# Altium schematic symbol library Standard.SchLib: 26 symbols
Pins are listed as number, name and electrical type; pins without a type are passive.

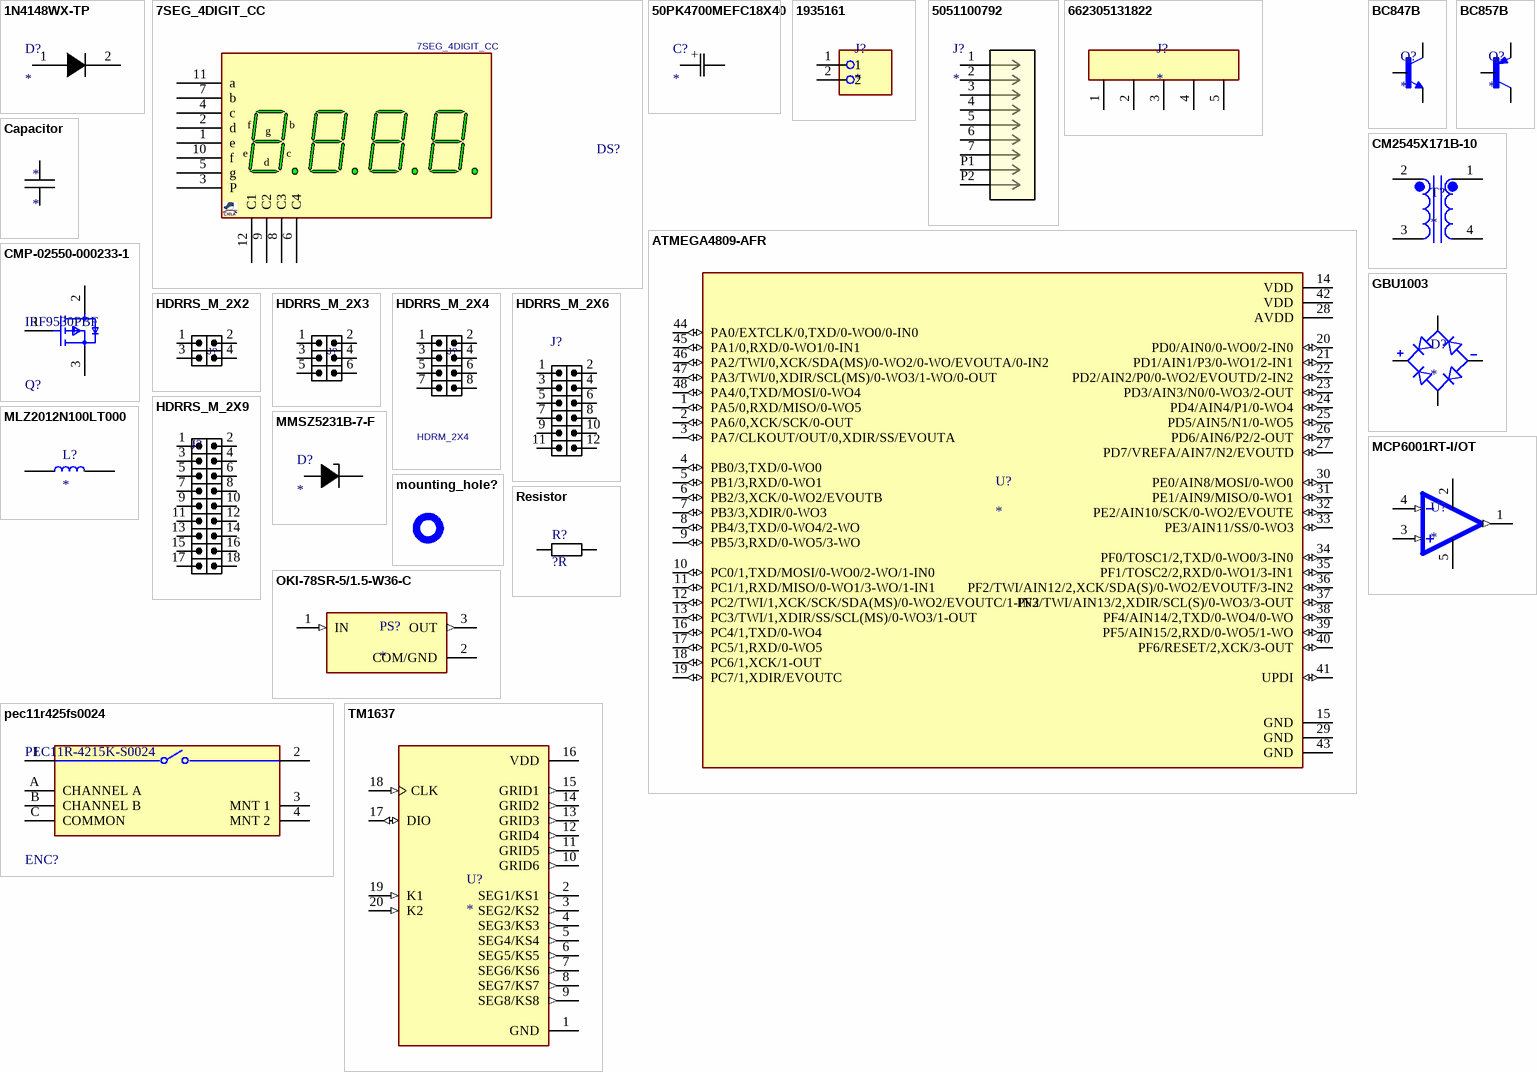
[diagram p0: symbols 1N4148WX-TP to TM1637]

## 1N4148WX-TP
designator D?
MF: {'manufacturer': u'Micro Commercial'}; MP: 1N4148WX-TP; Package: None; Price: None; Value: *; Availability: Unavailable
footprint SOD2512X115N
pins: 1 ANODE, 2 CATHODE

## 7SEG_4DIGIT_CC
designator DS?
7SEGMENT, 4DIGIT, common cathode 5641; MANF_P#: DPY-4CK; VALUE: 7SEG_4DIGIT_CC
footprint 7SEGX4_12 (7SEG 4DIGIT 12pin Pitch: 2.54mm    5641 0.56", 19X50.3mm)
pins: 1 e, 2 d, 3 P, 4 c, 5 g, 6 C4, 7 b, 8 C3, 9 C2, 10 f, 11 a, 12 C1

## 50PK4700MEFC18X40
designator C?
No Description Available; Mfr_Name: Rubycon
footprint CAP_PKPZ_18X40_RUB
pins: 1, 2
text: +

## 1935161
designator J?
MF: {'manufacturer': u'Phoenix Contact'}; MP: 1935161; Package: None; Price: None; Value: *; Availability: Unavailable
footprint PHOENIX_1935161
pins: 1, 2

## 5051100792
designator J?
No Description Available; Mfr_Name: Molex Connector Corporation; RefDes: RefDes; Type: Type
footprint CON_5051100792_MOL
pins: 1, 2, 3, 4, 5, 6, 7, P1, P2

## 662305131822
designator J?
<br><b> <br><b>3.00 MM SMT SINGLE ROW MALE VERTICAL HEADER WITH SMT SOLDER TABS<br><br></b></b>=>ConMPC3 662305131822 <br> <br> <br><b> Characteristics  <br><br></b></b>INSULATOR: LCP  <br>FLAMABILITY RATING: UL94-V0  <br>COLOR: BLACK  <br>CONTACT MATERIAL: COPPER ALLOY  <br>CONTACT TYPE: STAMPED  <br>CONTACT PLATING: TIN  <br>QUALITY CLASS:25 MATING CYCLES  <br>OPERATING TEMPERATURE:-40Â°C UP TO +105Â°C  <br>COMPLIANCE: LEAD FREE AND ROHS <br> <br> <br> <br><b> ELECTRICAL  <br><br></b></b>CURRENT RATING: 5A  <br>WORKING VOLTAGE: 250 VAC  <br>INSULATOR RESISTANCE: >1000 MOHM  <br>DIELECTRIC WITHSTANDING VOLTAGE: 1500 VAC/MN  <br>CONTACT RESISTANCE: 10 mOHM MAX  <br> <br> <br><a href="http://katalog.we-online.de/media/images/v2/Family_WR-MPC3-6623xx131822_SW.jpg" title="Enlarge picture"> <img src="http://katalog.we-online.de/media/images/v2/Family_WR-MPC3-6623xx131822_SW.jpg"  width="320"></a><p> Details see: <a href="http://katalog.we-online.de/en/em/MPC3_3_00_SMT_MALE_SINGLE_ROW_VERTICAL_W_SMT_SOLDER_TAB_6623XX131822">http://katalog.we-online.de/en/em/MPC3_3_00_SMT_MALE_SINGLE_ROW_VERTICAL_W_SMT_SOLDER_TAB_6623XX131822</a><p> <br></b>2015 (C) Wurth Elektronik; Package: None; Price: None; Value: *; MP: 662305131822; Availability: Unavailable
footprint 662305131822
pins: 1 5, 2 4, 3, 4 2, 5 1

## ATMEGA4809-AFR
designator U?
20MHz 48KB TQFP48 Ind 125C Green T&R; MF: {'manufacturer': u'Microchip'}; MP: ATMEGA4809-AFR; Package: None; Price: None; Value: *; Availability: Unavailable
footprint QFP50P900X900X120-48N
pins: 1 PA5/0,RXD/MISO/0-WO5 (io), 2 PA6/0,XCK/SCK/0-OUT (io), 3 PA7/CLKOUT/OUT/0,XDIR/SS/EVOUTA (io), 4 PB0/3,TXD/0-WO0 (io), 5 PB1/3,RXD/0-WO1 (io), 6 PB2/3,XCK/0-WO2/EVOUTB (io), 7 PB3/3,XDIR/0-WO3 (io), 8 PB4/3,TXD/0-WO4/2-WO (io), 9 PB5/3,RXD/0-WO5/3-WO (io), 10 PC0/1,TXD/MOSI/0-WO0/2-WO/1-IN0 (io), 11 PC1/1,RXD/MISO/0-WO1/3-WO/1-IN1 (io), 12 PC2/TWI/1,XCK/SCK/SDA(MS)/0-WO2/EVOUTC/1-IN2 (io), 13 PC3/TWI/1,XDIR/SS/SCL(MS)/0-WO3/1-OUT (io), 14 VDD (power), 15 GND (power), 16 PC4/1,TXD/0-WO4 (io), 17 PC5/1,RXD/0-WO5 (io), 18 PC6/1,XCK/1-OUT (io), 19 PC7/1,XDIR/EVOUTC (io), 20 PD0/AIN0/0-WO0/2-IN0 (io), 21 PD1/AIN1/P3/0-WO1/2-IN1 (io), 22 PD2/AIN2/P0/0-WO2/EVOUTD/2-IN2 (io), 23 PD3/AIN3/N0/0-WO3/2-OUT (io), 24 PD4/AIN4/P1/0-WO4 (io), 25 PD5/AIN5/N1/0-WO5 (io), 26 PD6/AIN6/P2/2-OUT (io), 27 PD7/VREFA/AIN7/N2/EVOUTD (io), 28 AVDD (power), 29 GND (power), 30 PE0/AIN8/MOSI/0-WO0 (io), 31 PE1/AIN9/MISO/0-WO1 (io), 32 PE2/AIN10/SCK/0-WO2/EVOUTE (io), 33 PE3/AIN11/SS/0-WO3 (io), 34 PF0/TOSC1/2,TXD/0-WO0/3-IN0 (io), 35 PF1/TOSC2/2,RXD/0-WO1/3-IN1 (io), 36 PF2/TWI/AIN12/2,XCK/SDA(S)/0-WO2/EVOUTF/3-IN2 (io), 37 PF3/TWI/AIN13/2,XDIR/SCL(S)/0-WO3/3-OUT (io), 38 PF4/AIN14/2,TXD/0-WO4/0-WO (io), 39 PF5/AIN15/2,RXD/0-WO5/1-WO (io), 40 PF6/RESET/2,XCK/3-OUT (io), 41 UPDI (io), 42 VDD (power), 43 GND (power), 44 PA0/EXTCLK/0,TXD/0-WO0/0-IN0 (io), 45 PA1/0,RXD/0-WO1/0-IN1 (io), 46 PA2/TWI/0,XCK/SDA(MS)/0-WO2/0-WO/EVOUTA/0-IN2 (io), 47 PA3/TWI/0,XDIR/SCL(MS)/0-WO3/1-WO/0-OUT (io), 48 PA4/0,TXD/MOSI/0-WO4 (io)

## BC847B
designator Q?
<a href="https://pricing.snapeda.com/parts/BC847B/Diotec%20Semiconductor/view-part?ref=eda">Check availability</a>; MF: {'manufacturer': u'STMicroelectronics'}; MP: BC847B; Package: None; Price: None; Value: *; Availability: Unavailable
footprint TRANS_BC847B
pins: 1 B, 2 E, 3 C

## BC857B
designator Q?
MF: {'manufacturer': u'Diotec'}; MP: BC857B; Package: None; Price: None; Value: *; Availability: Unavailable
footprint SOT95P240X120-3N
pins: 1 B, 2 E, 3 C

## Capacitor
designator *
footprint C 0603 / 1608 (Capacitor 0603 / 1608 (1.6 x 0.8 mm))
pins: 1, 2 1

## CM2545X171B-10
designator T?
MF: {'manufacturer': u'Laird'}; MP: CM2545X171B-10; Package: None; Price: None; Value: *; Availability: Unavailable
footprint XFMR_CM2545X171B-10
pins: 1, 2, 3, 4

## CMP-02550-000233-1
designator Q?, comment IRF9530PBF
MOSFET P-CH 100V 12A TO-220AB; Drain to Source Breakdown Voltage: -100V; On-State Resistance: 300mR; Gate to Source Voltage (Vgs): 20V; Recovery Time: 240ns; Power Dissipation: 88W; Threshold Voltage: -4V; Number of Channels: 1; Current Rating: -12A; Fall Time: 39ns; Polarity: P-CHANNEL; Turn-On Delay Time: 12ns; Element Configuration: Single; Input Capacitance: 860pF; Rise Time: 52ns; Turn-Off Delay Time: 31ns; Polarization: P; Lead Free: Lead Free; RoHS Compliant: Yes; Radiation Hardening: No; Width: 4.7mm; Drain to Source Resistance: 300mR; Package Quantity: 50; Height: 9.01mm; Length: 10.41mm; Rds On Max: 300mR; Min Operating Temperature: -55°C; Case/Package: TO-220AB; Continuous Drain Current (ID): 12A; Number of Pins: 3; Weight: 0.211644oz; Max Operating Temperature: 175°C; Series: -; Max Power Dissipation: 88W; Voltage Rating (DC): -100V; Mount: Through Hole; Packaging: Rail/Tube; Number of Elements: 1; Drain-source On Resistance-Max: 300mR; Drain to Source Voltage (Vdss): 100V
footprint FP-X15-0364-MFG
pins: 1 G, 2 D, 3 S

## GBU1003
designator D?
MF: {'manufacturer': u'Taiwan Semiconductor'}; MP: GBU1003; Package: None; Price: None; Value: *; Availability: Unavailable
footprint SIP343W114P508L2205H2134Q4 (Footprint not found)
pins: AC1, AC2, NEG, POS

## HDRRS_M_2X2
designator J?, comment HDRM_2X2  (value not drawn)
CONN, HEADER, Male, pitch: 2.54mm, 4POS; MANF_P#: MANF_PART#; MANF: MANF; VALUE: HDRM_2X2
footprint HDR2_M_2X2 (Connector; Header; 2mm Pitch)
pins: 1, 2, 3, 4

## HDRRS_M_2X3
designator J?, comment HDRM_2X3  (value not drawn)
CONN, HEADER, Male, pitch: 2.54mm, 6POS; MANF_P#: MANF_PART#; MANF: MANF; VALUE: HDRM_2X3
footprint HDR2_M_2X3 (Connector; Header; 2mm Pitch)
pins: 1, 2, 3, 4, 5, 6

## HDRRS_M_2X4
designator J?, comment HDRM_2X4
CONN, HEADER, Male, pitch: 2.54mm, 8POS; MANF_P#: MANF_PART#; MANF: MANF; VALUE: HDRM_2X4
footprint HDR2_M_2X4 (Connector; Header; 2mm Pitch)
pins: 1, 2, 3, 4, 5, 6, 7, 8

## HDRRS_M_2X6
designator J?, comment HDRM_2X6  (value not drawn)
CONN, HEADER, Male, pitch: 2.54mm, 12POS; VALUE: HDRM_2X6
footprint HDR2_M_2X6 (Connector; Header; 2mm Pitch)
pins: 1, 2, 3, 4, 5, 6, 7, 8, 9, 10, 11, 12

## HDRRS_M_2X9
designator J?, comment HDRM_2X9  (value not drawn)
CONN, HEADER, Male, pitch: 2.54mm, 18POS; VALUE: HDRM_2X9
footprint HDR2_M_2X9 (Connector; Header; 2mm Pitch)
pins: 1, 2, 3, 4, 5, 6, 7, 8, 9, 10, 11, 12, 13, 14, 15, 16, 17, 18

## MCP6001RT-I/OT
designator U?
General Purpose Amplifier 1 Circuit Rail-to-Rail SOT-23-5; MF: {'manufacturer': u'Microchip Technology'}; MP: MCP6001RT-I/OT; Package: None; Price: None; Value: *; Availability: Unavailable
footprint SOT95P280X145-5N
pins: 1 VOUT (out), 2 VDD (power), 3 VIN+ (in), 4 VIN- (in), 5 VSS (power)

## MLZ2012N100LT000
designator L?
Inductor Power Shielded Multi-Layer 10uH 20% 2MHz Ferrite 500mA 390mOhm DCR 0805 T/R; MF: {'manufacturer': u'TDK'}; MP: MLZ2012N100LT000; Package: None; Price: None; Value: *; Availability: Unavailable
footprint INDC2012X145N
pins: 1, 2

## MMSZ5231B-7-F
designator D?
MF: {'manufacturer': u'Diodes Inc.'}; MP: MMSZ5231B-7-F; Package: None; Price: None; Value: *; Availability: Unavailable
footprint SOD3715X135N
pins: A, K

## mounting_hole?
designator U?  (value not drawn)
MF: Titan Micro Electronics; MP: TM1637; Package: Package; Availability: Not in stock; SnapEDA_Link: https://www.snapeda.com/parts/TM1637/Titan+Micro+Electronics/view-part/?ref=snap; Check_prices: https://www.snapeda.com/parts/TM1637/Titan+Micro+Electronics/view-part/?ref=eda; Value: *; Price: None

## OKI-78SR-5/1.5-W36-C
designator PS?
OKI Series 8 W Single Output 5 V Non Isolated Through Hole DC/DC Converter; MF: {'manufacturer': u'Murata Power Solutions'}; MP: OKI-78SR-5/1.5-W36-C; Package: None; Price: None; Value: *; Availability: Unavailable
footprint CONV_OKI-78SR-5/1.5-W36-C
pins: 1 IN (in), 2 COM/GND (power), 3 OUT (out)

## pec11r425fs0024
designator ENC?, comment PEC11R-4215K-S0024
ROTARY ENCODER MECHANICAL 24PPR; Built in Switch: Yes; Output Type: Quadrature; Pulses per Revolution: 24; Number of Channels: 2; Max Supply Voltage (DC): 5V; Hole Diameter: 1.8mm; Packaging: Bulk; Series: PEC11R; REACH SVHC: No SVHC; Mount: Through Hole; RoHS Compliant: Yes; Length: 21.5mm; Termination: PC Pin; Width: 12.5mm; Min Operating Temperature: -30°C; Package Quantity: 150; Orientation: Vertical; Encoder Type: Mechanical; Height: 13.4mm; Detent: Yes; Max Operating Temperature: 70°C
footprint FP-PEC11R-4215K-S0024-MFG
pins: 1, 2, 3 MNT 1, 4 MNT 2, A CHANNEL A, B CHANNEL B, C COMMON

## Resistor
designator R?, comment ?R
footprint R 0603
pins: 1, 2

## TM1637
designator U?
LED Drive Control Special Circuit; MF: Titan Micro Electronics; MP: TM1637; Package: Package; Availability: Not in stock; SnapEDA_Link: https://www.snapeda.com/parts/TM1637/Titan+Micro+Electronics/view-part/?ref=snap; Check_prices: https://www.snapeda.com/parts/TM1637/Titan+Micro+Electronics/view-part/?ref=eda; Value: *; Price: None
footprint DIP778W43P254L2612H431Q20N (Footprint not found)
pins: 1 GND (power), 2 SEG1/KS1 (out), 3 SEG2/KS2 (out), 4 SEG3/KS3 (out), 5 SEG4/KS4 (out), 6 SEG5/KS5 (out), 7 SEG6/KS6 (out), 8 SEG7/KS7 (out), 9 SEG8/KS8 (out), 10 GRID6 (out), 11 GRID5 (out), 12 GRID4 (out), 13 GRID3 (out), 14 GRID2 (out), 15 GRID1 (out), 16 VDD (power), 17 DIO (io), 18 CLK (in), 19 K1 (in), 20 K2 (in)